# Altium schematic symbol library PSK-5D.SchLib: 1 symbol
Pins are listed as number, name and electrical type; pins without a type are passive.

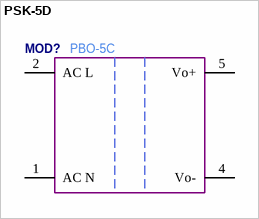
[diagram p0: symbol PSK-5D]

## PSK-5D
designator MOD?  Manufacturer Part Number: PBO-5C  (hidden comment: *)
pins: 1 AC N, 2 AC L, 4 Vo-, 5 Vo+